# EAGLE library part NF-TRF1 (library Trafo)
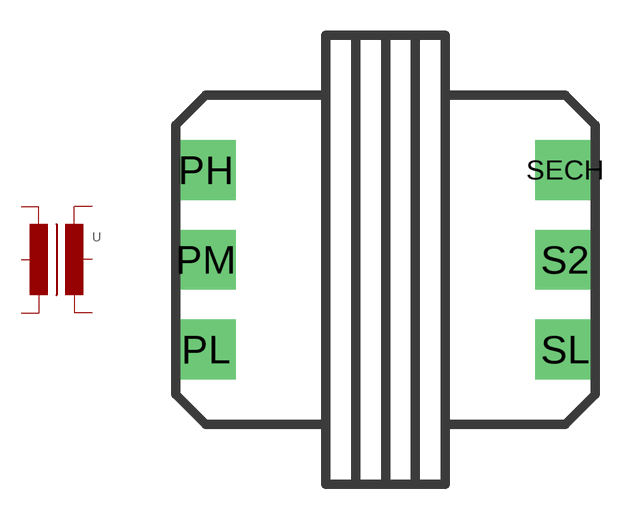
[diagram p0: symbol with the pads of NF-RTF1; footprint NF-RTF1]

Designator prefix -

## NF-TRF1  [NF-RTF1]
PH  PH
PL  PL
PM  PM
S2  S2
SECH  SECH
SL  SL

## Footprint NF-RTF1 (pad centres in mm)
drill 1 pad 2.54 square: PH 0,7.62; PL 0,0; PM 0,3.81; S2 15.24,3.81; SECH 15.24,7.62; SL 15.24,0